# EAGLE library part NTS0102 (library NXP)
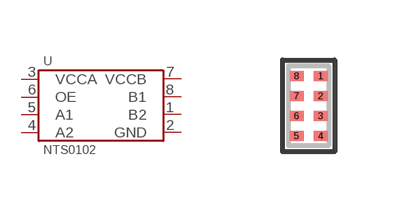
[diagram p1: symbol with the pads of NTS0102; footprint NTS0102]

Designator prefix U

## NTS0102  [NTS0102]
1  B2
2  GND
3  VCCA
4  A2
5  A1
6  OE
7  VCCB
8  B1

## Footprint NTS0102 (pad centres in mm)
smd 0.35 x 0.25: 1 0.3,0.75; 2 0.3,0.25; 3 0.3,-0.25; 4 0.3,-0.75; 5 -0.3,-0.75; 6 -0.3,-0.25; 7 -0.3,0.25; 8 -0.3,0.75